# EAGLE library part MCM54900A (library memory-motorola-dram)
MEMORY
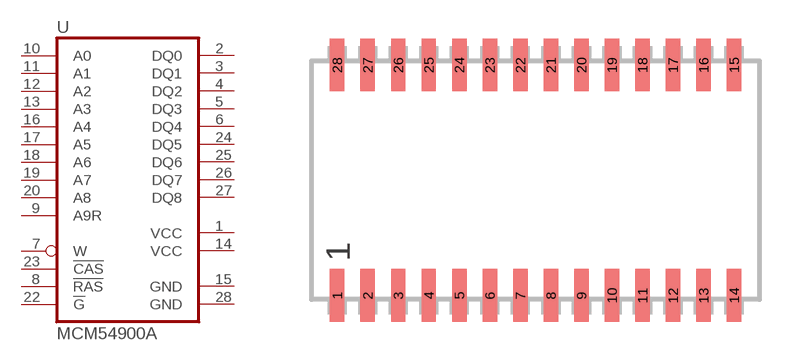
[diagram p12: symbol with the pads of SOJ28-4; footprint SOJ28-4]

Designator prefix U

## MCM54900A  [SOJ28-4]
1  VCC  pwr
2  DQ0
3  DQ1
4  DQ2
5  DQ3
6  DQ4
7  W  in
8  !RAS!  in
9  A9R  in
10  A0  in
11  A1  in
12  A2  in
13  A3  in
14  VCC  pwr
15  GND  pwr
16  A4  in
17  A5  in
18  A6  in
19  A7  in
20  A8  in
22  !G!  in
23  !CAS!  in
24  DQ5
25  DQ6
26  DQ7
27  DQ8
28  GND  pwr

## Footprint SOJ28-4 (pad centres in mm)
SMALL OUTLINE J LEADS body 10.12 mm
smd 0.6 x 2.2: 1 -8.255,-4.8; 2 -6.985,-4.8; 3 -5.715,-4.8; 4 -4.445,-4.8; 5 -3.175,-4.8; 6 -1.905,-4.8; 7 -0.635,-4.8; 8 0.635,-4.8; 9 1.905,-4.8; 10 3.175,-4.8; 11 4.445,-4.8; 12 5.715,-4.8; 13 6.985,-4.8; 14 8.255,-4.8; 15 8.255,4.8; 16 6.985,4.8; 17 5.715,4.8; 18 4.445,4.8; 19 3.175,4.8; 20 1.905,4.8; 21 0.635,4.8; 22 -0.635,4.8; 23 -1.905,4.8; 24 -3.175,4.8; 25 -4.445,4.8; 26 -5.715,4.8; 27 -6.985,4.8; 28 -8.255,4.8